# EAGLE library part PI- (library jt-raspberry-pi)
Raspberry Pi
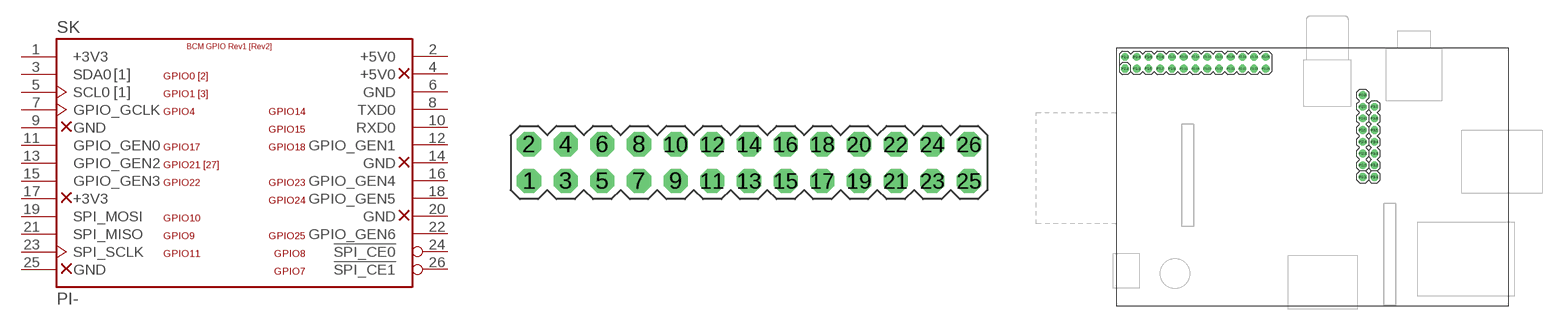
[diagram p0: symbol with the pads of GPIO-CONNECTOR; footprints GPIO-CONNECTOR, RASPBERRY-PI]

Designator prefix SK

## PI-GPIO-PTH  [GPIO-CONNECTOR]
1  +3V3  pwr
2  +5V0  pwr
3  SDA0
4  +5V0  nc
5  SCL0
6  GND  pwr
7  GPIO_GCLK
8  TXD0
9  GND  nc
10  RXD0
11  GPIO_GEN0
12  GPIO_GEN1
13  GPIO_GEN2
14  GND  nc
15  GPIO_GEN3
16  GPIO_GEN4
17  +3V3  nc
18  GPIO_GEN5
19  SPI_MOSI
20  GND  nc
21  SPI_MISO
22  GPIO_GEN6
23  SPI_SCLK
24  !SPI_CE0
25  GND  nc
26  !SPI_CE1

## PI-BOARD  [RASPBERRY-PI]
P1-1  +3V3  pwr
P1-2  +5V0  pwr
P1-3  SDA0
P1-4  +5V0  nc
P1-5  SCL0
P1-6  GND  pwr
P1-7  GPIO_GCLK
P1-8  TXD0
P1-9  GND  nc
P1-10  RXD0
P1-11  GPIO_GEN0
P1-12  GPIO_GEN1
P1-13  GPIO_GEN2
P1-14  GND  nc
P1-15  GPIO_GEN3
P1-16  GPIO_GEN4
P1-17  +3V3  nc
P1-18  GPIO_GEN5
P1-19  SPI_MOSI
P1-20  GND  nc
P1-21  SPI_MISO
P1-22  GPIO_GEN6
P1-23  SPI_SCLK
P1-24  !SPI_CE0
P1-25  GND  nc
P1-26  !SPI_CE1

## PI-GPIO-SMT  [GPIO-CONNECTOR-SMT]
Pads as for GPIO-CONNECTOR

## PI-GPIO-SMTR  [GPIO-CONNECTOR-SMT-REV]
Pads as for GPIO-CONNECTOR

## Footprint GPIO-CONNECTOR (pad centres in mm)
Basic GPIO connector
drill 1.016 pad 1.676 octagon: 1 -15.24,-1.27; 2 -15.24,1.27; 3 -12.7,-1.27; 4 -12.7,1.27; 5 -10.16,-1.27; 6 -10.16,1.27; 7 -7.62,-1.27; 8 -7.62,1.27; 9 -5.08,-1.27; 10 -5.08,1.27; 11 -2.54,-1.27; 12 -2.54,1.27; 13 0,-1.27; 14 0,1.27; 15 2.54,-1.27; 16 2.54,1.27; 17 5.08,-1.27; 18 5.08,1.27; 19 7.62,-1.27; 20 7.62,1.27; 21 10.16,-1.27; 22 10.16,1.27; 23 12.7,-1.27; 24 12.7,1.27; 25 15.24,-1.27; 26 15.24,1.27

## Footprint RASPBERRY-PI (pad centres in mm)
Raspberry Pi basic connections
drill 1.016 pad 1.676 octagon: P1-1 1.905,51.435; P2-1 53.34,27.94; P3-1 55.88,27.94
drill 1.016 pad 1.676: P1-2 1.905,53.975; P1-3 4.445,51.435; P1-4 4.445,53.975; P1-5 6.985,51.435; P1-6 6.985,53.975; P1-7 9.525,51.435; P1-8 9.525,53.975; P1-9 12.065,51.435; P1-10 12.065,53.975; P1-11 14.605,51.435; P1-12 14.605,53.975; P1-13 17.145,51.435; P1-14 17.145,53.975; P1-15 19.685,51.435; P1-16 19.685,53.975; P1-17 22.225,51.435; P1-18 22.225,53.975; P1-19 24.765,51.435; P1-20 24.765,53.975; P1-21 27.305,51.435; P1-22 27.305,53.975; P1-23 29.845,51.435; P1-24 29.845,53.975; P1-25 32.385,51.435; P1-26 32.385,53.975; P2-2 53.34,30.48; P2-3 53.34,33.02; P2-4 53.34,35.56; P2-5 53.34,38.1; P2-6 53.34,40.64; P2-7 53.34,43.18; P2-8 53.34,45.72; P3-2 55.88,30.48; P3-3 55.88,33.02; P3-4 55.88,35.56; P3-5 55.88,38.1; P3-6 55.88,40.64; P3-7 55.88,43.18

## Footprint GPIO-CONNECTOR-SMT (pad centres in mm)
smd 1.27 x 3: 1 -15.24,-2.54; 2 -15.24,2.54; 3 -12.7,-2.54; 4 -12.7,2.54; 5 -10.16,-2.54; 6 -10.16,2.54; 7 -7.62,-2.54; 8 -7.62,2.54; 9 -5.08,-2.54; 10 -5.08,2.54; 11 -2.54,-2.54; 12 -2.54,2.54; 13 0,-2.54; 14 0,2.54; 15 2.54,-2.54; 16 2.54,2.54; 17 5.08,-2.54; 18 5.08,2.54; 19 7.62,-2.54; 20 7.62,2.54; 21 10.16,-2.54; 22 10.16,2.54; 23 12.7,-2.54; 24 12.7,2.54; 25 15.24,-2.54; 26 15.24,2.54

## Footprint GPIO-CONNECTOR-SMT-REV (pad centres in mm)
Mount this on solder side if mounting above PI
smd 1.27 x 3: 1 -15.24,2.54; 2 -15.24,-2.54; 3 -12.7,2.54; 4 -12.7,-2.54; 5 -10.16,2.54; 6 -10.16,-2.54; 7 -7.62,2.54; 8 -7.62,-2.54; 9 -5.08,2.54; 10 -5.08,-2.54; 11 -2.54,2.54; 12 -2.54,-2.54; 13 0,2.54; 14 0,-2.54; 15 2.54,2.54; 16 2.54,-2.54; 17 5.08,2.54; 18 5.08,-2.54; 19 7.62,2.54; 20 7.62,-2.54; 21 10.16,2.54; 22 10.16,-2.54; 23 12.7,2.54; 24 12.7,-2.54; 25 15.24,2.54; 26 15.24,-2.54